# Altium footprint library SOT.PcbLib: 39 footprints (part 3 of 3)
Each footprint in its own frame and in the unit in brackets; x right, y up, seen from the top. Pads: shape width x height; smd on the part's side, far side on the other; paste and mask are expansions set on the pad; w line width, h text height; cw(c..) or ccw(c..) is an arc to the next point about the centre after c.
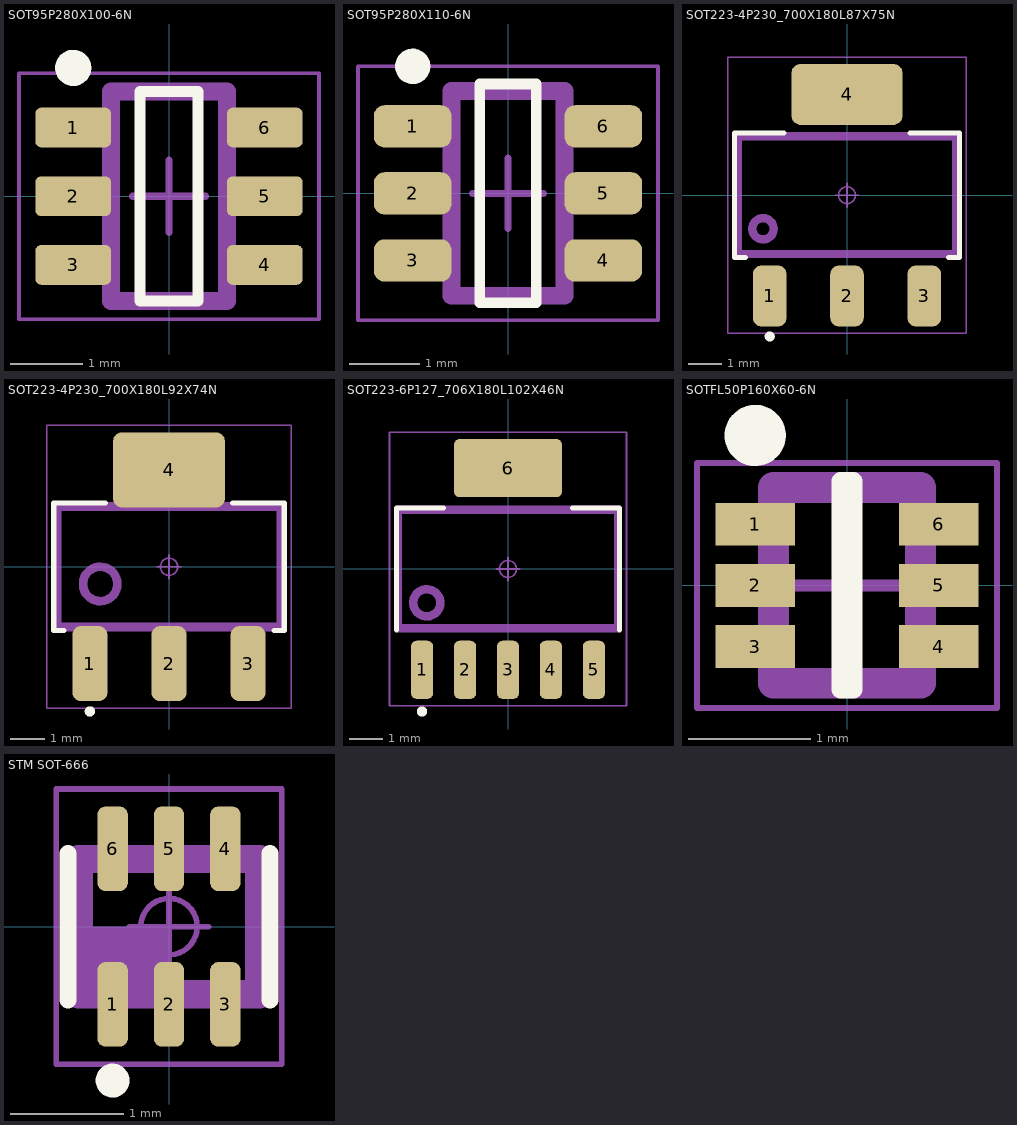
[diagram p2: the footprints below, top view; thin cyan lines are the x and y axes]

## SOT95P280X100-6N [mm] "SOT23, 6-Leads, Body 2.90x2.80mm, Pitch 0.95mm, IPC Medium Density"
height 1
pads (6):
  rrect30% 1.05x0.55 smd: 1(-1.325,0.95) 2(-1.325,0) 3(-1.325,-0.95) 4(1.325,-0.95) 5(1.325,0) 6(1.325,0.95)
Top Overlay:
  circle w0.25: c-1.325,1.775 r0.125
  lines w0.15: -0.4,-1.45 0.4,-1.45 0.4,1.45 -0.4,1.45 -0.4,-1.45
Top Assembly:
  lines w0.25: -0.8,-1.45 -0.8,1.45 0.8,1.45 0.8,-1.45 -0.8,-1.45
Top Courtyard:
  lines w0.05: -2.075,-1.7 -2.075,1.7 2.075,1.7 2.075,-1.7 -2.075,-1.7
  lines w0.1: -0.5,0 0.5,0 ; 0,-0.5 0,0.5
3D body "SOT95P280X100-6N.step": height 1, standoff 0, extent -1.4,-1.45 1.4,1.45

## SOT95P280X110-6N [mm] "SOT23, 6-Leads, Body 2.90x2.80mm, Pitch 0.95mm, IPC Medium Density"
height 1.1
pads (6):
  rrect50% 1.1x0.6 smd: 1(-1.35,0.95) 2(-1.35,0) 3(-1.35,-0.95) 4(1.35,-0.95) 5(1.35,0) 6(1.35,0.95)
Top Overlay:
  circle w0.25: c-1.35,1.8 r0.125
  lines w0.15: -0.4,-1.55 0.4,-1.55 0.4,1.55 -0.4,1.55 -0.4,-1.55
Top Assembly:
  lines w0.25: -0.8,-1.45 -0.8,1.45 0.8,1.45 0.8,-1.45 -0.8,-1.45
Top Courtyard:
  lines w0.05: -2.125,-1.8 -2.125,1.8 2.125,1.8 2.125,-1.8 -2.125,-1.8
  lines w0.1: -0.5,0 0.5,0 ; 0,-0.5 0,0.5
3D body "SOT95P280X110-6N.step": height 1.1, standoff 0, extent -1.525,-1.45 1.525,1.45

## SOT223-4P230_700X180L87X75N [mm] "Small Outline Transistor (SOT223), 2.30 mm pitch; 4 pin, 6.50 mm L X 3.50 mm W X 1.80 mm H body"
height 1.8
pads (4):
  rrect50% 1x1.81 smd: 1(-2.3,-3) 2(0,-3) 3(2.3,-3)
  rrect28% 3.3x1.81 smd: 4(0,3)
Top Overlay:
  circle w0.15: c-2.3,-4.205 r0.075
  lines w0.15: -3.025,-1.85 -3.35,-1.85 -3.35,1.85 -1.875,1.85 ; 1.875,1.85 3.35,1.85 3.35,-1.85 3.025,-1.85
Top Assembly:
  circle w0.25: c-2.5,-1 r0.316
  lines w0.25: -3.25,-1.75 -3.25,1.75 3.25,1.75 3.25,-1.75 -3.25,-1.75
  text ".Designator" at -3.378,-0.339 h1.5
Top Courtyard:
  circle w0.05: c0,0 r0.25
  lines w0.05: -0.35,0 0.35,0 ; 0,-0.35 0,0.35 ; -3.55,-4.11 -3.55,4.11 3.55,4.11 3.55,-4.11 -3.55,-4.11
3D body "SOT223-4P230_700X180L87X75.STEP": height 1.8, standoff 0, extent -3.25,-3.5 3.25,3.5

## SOT223-4P230_700X180L92X74N [mm] "Small Outline Transistor (SOT223), 2.30 mm pitch; 4 pin, 6.50 mm L X 3.50 mm W X 1.80 mm H body"
height 1.8
pads (4):
  rrect49% 1.02x2.18 smd: 1(-2.3,-2.815) 2(0,-2.815) 3(2.3,-2.815)
  rrect23% 3.25x2.18 smd: 4(0,2.815)
Top Overlay:
  circle w0.15: c-2.3,-4.205 r0.075
  lines w0.15: -3.05,-1.85 -3.35,-1.85 -3.35,1.85 -1.85,1.85 ; 1.85,1.85 3.35,1.85 3.35,-1.85 3.05,-1.85
Top Assembly:
  circle w0.25: c-2,-0.5 r0.5
  lines w0.25: -3.25,-1.75 -3.25,1.75 3.25,1.75 3.25,-1.75 -3.25,-1.75
  text ".Designator" at -1.2,-0.6 h1.5
Top Courtyard:
  circle w0.05: c0,0 r0.25
  lines w0.05: -0.35,0 0.35,0 ; 0,-0.35 0,0.35 ; -3.55,-4.11 -3.55,4.11 3.55,4.11 3.55,-4.11 -3.55,-4.11
3D body "SOT223-4P230_700X180L92X74.STEP": height 1.8, standoff 0, extent -3.25,-3.5 3.25,3.5

## SOT223-6P127_706X180L102X46N [mm] "Small Outline Transistor (SOT223), 1.27 mm pitch; 6 pin, 6.50 mm L X 3.50 mm W X 1.80 mm H body"
height 1.8
pads (6):
  rrect52% 0.66x1.72 smd: 1(-2.54,-2.98) 2(-1.27,-2.98) 3(0,-2.98) 4(1.27,-2.98) 5(2.54,-2.98)
  rrect20% 3.2x1.72 smd: 6(0,2.98)
Top Overlay:
  circle w0.15: c-2.54,-4.21 r0.075
  lines w0.15: -3.3,-1.8 -3.3,1.8 -1.9,1.8 ; 1.9,1.8 3.3,1.8 3.3,-1.8
Top Assembly:
  circle w0.25: c-2.4,-1 r0.4
  lines w0.25: -3.25,-1.75 3.25,-1.75 3.25,1.75 -3.25,1.75 -3.25,-1.75
  text ".Designator" at -3.378,-0.339 h1.5
Top Courtyard:
  circle w0.05: c0,0 r0.25
  lines w0.05: -0.35,0 0.35,0 ; 0,-0.35 0,0.35 ; -3.5,-4.04 3.5,-4.04 3.5,4.04 -3.5,4.04 -3.5,-4.04
3D body "SOT223-6P127_706X180L102X46.STEP": height 1.8, standoff 0, extent -3.25,-3.53 3.25,3.53

## SOTFL50P160X60-6N [mm] "SOTFL, 6-Leads, Body 1.60x1.60mm, Pitch 0.50mm, IPC Medium Density"
height 0.6
pads (6):
  rect 0.65x0.35 smd: 1(-0.75,0.5) 2(-0.75,0) 3(-0.75,-0.5) 4(0.75,-0.5) 5(0.75,0) 6(0.75,0.5)
Top Overlay:
  circle w0.25: c-0.75,1.225 r0.125
  lines w0.15: -0.05,-0.85 -0.05,0.85 0.05,0.85 0.05,-0.85 -0.05,-0.85
Top Assembly:
  lines w0.25: -0.6,-0.8 0.6,-0.8 0.6,0.8 -0.6,0.8 -0.6,-0.8
Top Courtyard:
  lines w0.05: -1.225,-1 1.225,-1 1.225,1 -1.225,1 -1.225,-1
  lines w0.1: -0.5,0 0.5,0 ; 0,-0.5 0,0.5
3D body "SOTFL50P160X60-6N.step": height 0.6, standoff 0, extent -0.8,-0.798 0.8,0.798

## STM SOT-666 [mm] "Diode, Small Outline Flat Lead (SOFL), 0.50 mm pitch; 6 pin, 1.60 mm L X 1.20 mm W X 0.62 mm H body"
height 0.62
pads (6):
  rrect53% 0.27x0.75 smd: 1(-0.5,-0.69) 2(0,-0.69) 3(0.5,-0.69) 4(0.5,0.69) 5(0,0.69) 6(-0.5,0.69)
Top Overlay:
  circle w0.15: c-0.5,-1.365 r0.075
  lines w0.15: -0.895,-0.65 -0.895,0.65 ; 0.895,-0.65 0.895,0.65
Top Assembly:
  rectangle: -0.8,-0.6 0,0
  lines w0.25: -0.8,-0.6 -0.8,0.6 0.8,0.6 0.8,-0.6 -0.8,-0.6
  text ".Designator" at -3.378,1.061 h1.5
Top Courtyard:
  circle w0.05: c0,0 r0.25
  lines w0.05: -0.35,0 0.35,0 ; 0,-0.35 0,0.35 ; -1,-1.22 -1,1.22 1,1.22 1,-1.22 -1,-1.22
3D body "DIOSOFL6P50_160X160X62L39X23.STEP": height 0.62, standoff 0, extent -0.8,-0.8 0.8,0.8